# Altium footprint library NewSmartwatch.PcbLib: 41 footprints (part 3 of 3)
Each footprint in its own frame and in the unit in brackets; x right, y up, seen from the top. Pads: shape width x height; smd on the part's side, far side on the other; paste and mask are expansions set on the pad; w line width, h text height; cw(c..) or ccw(c..) is an arc to the next point about the centre after c.
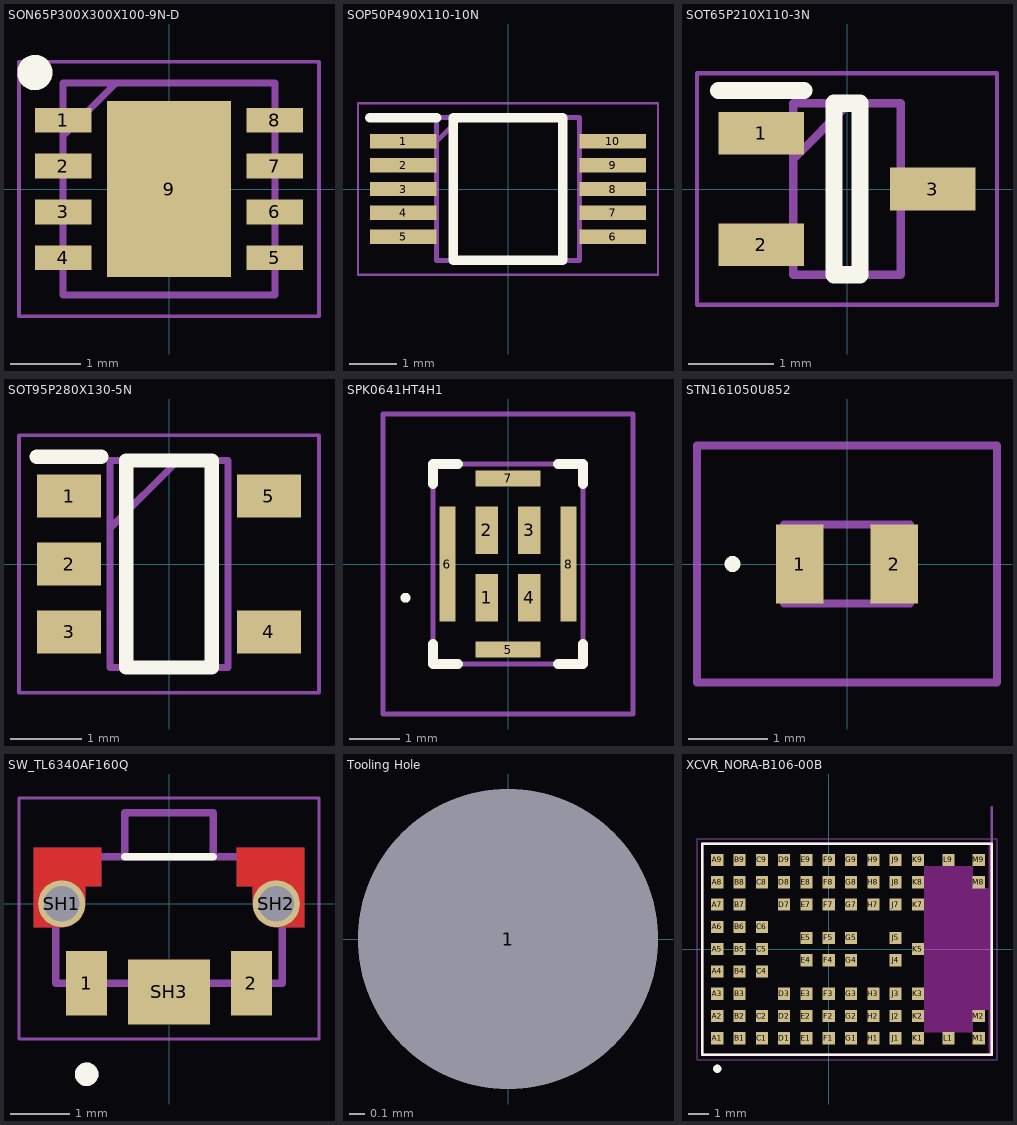
[diagram p2: the footprints below, top view; thin cyan lines are the x and y axes]

## SON65P300X300X100-9N-D [mm]
pads (9):
  rect 0.8x0.35 smd: 1(-1.5,0.975) 2(-1.5,0.325) 3(-1.5,-0.325) 4(-1.5,-0.975) 5(1.5,-0.975) 6(1.5,-0.325) 7(1.5,0.325) 8(1.5,0.975)
  rect 1.75x2.5 smd: 9(0,0)
Top Overlay:
  circle w0.25: c-1.9,1.65 r0.125
Mechanical 13:
  lines w0.1: -1.5,0.75 -0.75,1.5 ; -1.5,-1.5 1.5,-1.5 1.5,1.5 -1.5,1.5 -1.5,-1.5
Mechanical 15:
  lines w0.05: -2.125,-1.8 2.125,-1.8 2.125,1.8 -2.125,1.8 -2.125,-1.8
3D body "NCV8187AMLE330TCG.stp": height 1, standoff 0, extent -1.55,-1.5 1.55,1.5

## SOP50P490X110-10N [mm]
pads (10):
  rect 1.4x0.3 smd: 1(-2.2,1) 2(-2.2,0.5) 3(-2.2,0) 4(-2.2,-0.5) 5(-2.2,-1) 6(2.2,-1) 7(2.2,-0.5) 8(2.2,0) 9(2.2,0.5) 10(2.2,1)
Top Overlay:
  lines w0.2: -2.9,1.5 -1.5,1.5 ; -1.15,-1.5 -1.15,1.5 1.15,1.5 1.15,-1.5 -1.15,-1.5
Mechanical 13:
  lines w0.1: -1.5,1 -1,1.5 ; -1.5,-1.5 -1.5,1.5 1.5,1.5 1.5,-1.5 -1.5,-1.5
Mechanical 15:
  lines w0.05: -3.15,-1.8 -3.15,1.8 3.15,1.8 3.15,-1.8 -3.15,-1.8
3D body "DRV2605LDGST.stp": height 1.1, standoff 0, extent -2.463,-1.5 2.463,1.5

## SOT65P210X110-3N [mm]
pads (3):
  rect 1x0.5 smd: 1(-1,0.65) 2(-1,-0.65) 3(1,0)
Top Overlay:
  lines w0.2: -1.5,1.15 -0.5,1.15 ; -0.15,-1 -0.15,1 0.15,1 0.15,-1 -0.15,-1
Mechanical 13:
  lines w0.1: -0.625,0.35 0.025,1 ; -0.625,-1 -0.625,1 0.625,1 0.625,-1 -0.625,-1
Mechanical 15:
  lines w0.05: -1.75,-1.35 -1.75,1.35 1.75,1.35 1.75,-1.35 -1.75,-1.35
3D body "DMG1013UW-7.stp": height 1.1, standoff 0, extent -1.05,-1 1.05,1

## SOT95P280X130-5N [mm]
pads (5):
  rect 0.9x0.6 smd: 1(-1.4,0.95) 2(-1.4,0) 3(-1.4,-0.95) 4(1.4,-0.95) 5(1.4,0.95)
Top Overlay:
  lines w0.2: -1.85,1.5 -0.95,1.5 ; -0.6,-1.45 0.6,-1.45 0.6,1.45 -0.6,1.45 -0.6,-1.45
Mechanical 13:
  lines w0.1: -0.825,0.5 0.125,1.45 ; -0.825,-1.45 0.825,-1.45 0.825,1.45 -0.825,1.45 -0.825,-1.45
Mechanical 15:
  lines w0.05: -2.1,-1.8 2.1,-1.8 2.1,1.8 -2.1,1.8 -2.1,-1.8
3D body "XC9265A331MR-G.stp": height 1.3, standoff 0, extent -1.4,-1.45 1.4,1.45

## SPK0641HT4H1 [mm]
pads (8):
  rect 0.45x0.95 smd: 1(-0.425,-0.675) 2(-0.425,0.675) 3(0.425,0.675) 4(0.425,-0.675)
  rect 1.3x0.325 smd: 5(0,-1.712) 7(0,1.712)
  rect 0.325x2.3 smd: 6(-1.212,0) 8(1.212,0)
Top Overlay:
  lines w0.1: -2.1,-0.675 ccw(c-2.05,-0.675) -2,-0.675 ccw(c-2.05,-0.675) -2.1,-0.675
  lines w0.2: -1.5,-1.6 -1.5,-2 -1,-2 ; -1.5,1.6 -1.5,2 -1,2 ; 1,-2 1.5,-2 1.5,-1.6 ; 1,2 1.5,2 1.5,1.6
Mechanical 13:
  lines w0.1: -1.5,-2 -1.5,2 1.5,2 1.5,-2 -1.5,-2
Mechanical 15:
  lines w0.1: -2.5,-3 -2.5,3 2.5,3 2.5,-3 -2.5,-3
3D body "SPK0641HT4H-1.stp": height 1, standoff 0, extent -1.503,-2.005 1.503,2.005

## STN161050U852 [mm]
pads (2):
  rect 0.6x1 smd: 1(-0.6,0) 2(0.6,0)
Top Overlay:
  lines w0.1: -1.5,0 ccw(c-1.45,0) -1.4,0 ccw(c-1.45,0) -1.5,0
Mechanical 13:
  lines w0.1: -0.8,-0.5 0.8,-0.5 0.8,0.5 -0.8,0.5 -0.8,-0.5
Mechanical 15:
  lines w0.1: -1.9,-1.5 1.9,-1.5 1.9,1.5 -1.9,1.5 -1.9,-1.5
3D body "STN161050U852.stp": height 0.5, standoff 0, extent -0.8,-0.501 0.8,0.501

## SW_TL6340AF160Q [mm]
height 1.55
pads (5):
  rect 0.7x1.1 smd: 1(-1.4,-1.35) 2(1.4,-1.35)
  round 0.8 hole 0.6 mask+0: SH1(-1.825,0) SH2(1.825,0)
  rect 1.4x1.1 smd: SH3(0,-1.5)
Top Layer:
  region: 2.3,-0.4 1.825,-0.4 1.804,-0.399 1.783,-0.398 1.762,-0.395 1.742,-0.391 1.721,-0.386 1.701,-0.38 1.682,-0.373 1.662,-0.365 1.643,-0.356 1.625,-0.346 1.607,-0.335 1.59,-0.324 1.573,-0.311 1.557,-0.297 1.542,-0.283 1.528,-0.268 1.514,-0.252 1.501,-0.235 1.49,-0.218 1.479,-0.2 1.469,-0.182 1.46,-0.163 1.452,-0.143 1.445,-0.124 1.439,-0.104 1.434,-0.083 1.43,-0.063 1.427,-0.042 1.426,-0.021 1.425,0 1.425,0.3 1.15,0.3 1.15,0.95 2.3,0.95
  region: -1.15,0.3 -1.425,0.3 -1.425,0 -1.426,-0.021 -1.427,-0.042 -1.43,-0.063 -1.434,-0.083 -1.439,-0.104 -1.445,-0.124 -1.452,-0.143 -1.46,-0.163 -1.469,-0.182 -1.479,-0.2 -1.49,-0.218 -1.501,-0.235 -1.514,-0.252 -1.528,-0.268 -1.542,-0.283 -1.557,-0.297 -1.573,-0.311 -1.59,-0.324 -1.607,-0.335 -1.625,-0.346 -1.643,-0.356 -1.662,-0.365 -1.682,-0.373 -1.701,-0.38 -1.721,-0.386 -1.742,-0.391 -1.762,-0.395 -1.783,-0.398 -1.804,-0.399 -1.825,-0.4 -2.3,-0.4 -2.3,0.95 -1.15,0.95
Bottom Layer:
  region: 2.3,-0.4 1.825,-0.4 1.804,-0.399 1.783,-0.398 1.762,-0.395 1.742,-0.391 1.721,-0.386 1.701,-0.38 1.682,-0.373 1.662,-0.365 1.643,-0.356 1.625,-0.346 1.607,-0.335 1.59,-0.324 1.573,-0.311 1.557,-0.297 1.542,-0.283 1.528,-0.268 1.514,-0.252 1.501,-0.235 1.49,-0.218 1.479,-0.2 1.469,-0.182 1.46,-0.163 1.452,-0.143 1.445,-0.124 1.439,-0.104 1.434,-0.083 1.43,-0.063 1.427,-0.042 1.426,-0.021 1.425,0 1.425,0.3 1.15,0.3 1.15,0.95 2.3,0.95
  region: -1.15,0.3 -1.425,0.3 -1.425,0 -1.426,-0.021 -1.427,-0.042 -1.43,-0.063 -1.434,-0.083 -1.439,-0.104 -1.445,-0.124 -1.452,-0.143 -1.46,-0.163 -1.469,-0.182 -1.479,-0.2 -1.49,-0.218 -1.501,-0.235 -1.514,-0.252 -1.528,-0.268 -1.542,-0.283 -1.557,-0.297 -1.573,-0.311 -1.59,-0.324 -1.607,-0.335 -1.625,-0.346 -1.643,-0.356 -1.662,-0.365 -1.682,-0.373 -1.701,-0.38 -1.721,-0.386 -1.742,-0.391 -1.762,-0.395 -1.783,-0.398 -1.804,-0.399 -1.825,-0.4 -2.3,-0.4 -2.3,0.95 -1.15,0.95
Top Overlay:
  circle w0.2: c-1.4,-2.9 r0.1
  lines w0.127: -0.75,0.8 0.75,0.8
Top Solder:
  region: 2.4,-0.5 1.825,-0.5 1.799,-0.499 1.773,-0.497 1.747,-0.494 1.721,-0.489 1.696,-0.483 1.67,-0.476 1.646,-0.467 1.622,-0.457 1.598,-0.446 1.575,-0.433 1.553,-0.419 1.531,-0.405 1.51,-0.389 1.49,-0.372 1.471,-0.354 1.453,-0.335 1.436,-0.315 1.42,-0.294 1.406,-0.272 1.392,-0.25 1.379,-0.227 1.368,-0.203 1.358,-0.179 1.349,-0.155 1.342,-0.129 1.336,-0.104 1.331,-0.078 1.328,-0.052 1.326,-0.026 1.325,0 1.325,0.2 1.05,0.2 1.05,1.05 2.4,1.05
  region: -1.05,0.2 -1.325,0.2 -1.325,0 -1.326,-0.026 -1.328,-0.052 -1.331,-0.078 -1.336,-0.104 -1.342,-0.129 -1.349,-0.155 -1.358,-0.179 -1.368,-0.203 -1.379,-0.227 -1.392,-0.25 -1.406,-0.272 -1.42,-0.294 -1.436,-0.315 -1.453,-0.335 -1.471,-0.354 -1.49,-0.372 -1.51,-0.389 -1.531,-0.405 -1.553,-0.419 -1.575,-0.433 -1.598,-0.446 -1.622,-0.457 -1.646,-0.467 -1.67,-0.476 -1.696,-0.483 -1.721,-0.489 -1.747,-0.494 -1.773,-0.497 -1.799,-0.499 -1.825,-0.5 -2.4,-0.5 -2.4,1.05 -1.05,1.05
Bottom Solder:
  region: 2.4,-0.5 1.825,-0.5 1.799,-0.499 1.773,-0.497 1.747,-0.494 1.721,-0.489 1.696,-0.483 1.67,-0.476 1.646,-0.467 1.622,-0.457 1.598,-0.446 1.575,-0.433 1.553,-0.419 1.531,-0.405 1.51,-0.389 1.49,-0.372 1.471,-0.354 1.453,-0.335 1.436,-0.315 1.42,-0.294 1.406,-0.272 1.392,-0.25 1.379,-0.227 1.368,-0.203 1.358,-0.179 1.349,-0.155 1.342,-0.129 1.336,-0.104 1.331,-0.078 1.328,-0.052 1.326,-0.026 1.325,0 1.325,0.2 1.05,0.2 1.05,1.05 2.4,1.05
  region: -1.05,0.2 -1.325,0.2 -1.325,0 -1.326,-0.026 -1.328,-0.052 -1.331,-0.078 -1.336,-0.104 -1.342,-0.129 -1.349,-0.155 -1.358,-0.179 -1.368,-0.203 -1.379,-0.227 -1.392,-0.25 -1.406,-0.272 -1.42,-0.294 -1.436,-0.315 -1.453,-0.335 -1.471,-0.354 -1.49,-0.372 -1.51,-0.389 -1.531,-0.405 -1.553,-0.419 -1.575,-0.433 -1.598,-0.446 -1.622,-0.457 -1.646,-0.467 -1.67,-0.476 -1.696,-0.483 -1.721,-0.489 -1.747,-0.494 -1.773,-0.497 -1.799,-0.499 -1.825,-0.5 -2.4,-0.5 -2.4,1.05 -1.05,1.05
Mechanical 13:
  circle w0.2: c-1.4,-2.9 r0.1
  lines w0.127: -0.75,0.8 -0.75,1.55 0.75,1.55 0.75,0.8 ; -0.75,0.8 -1.925,0.8 -1.925,-1.35 1.925,-1.35 1.925,0.8 0.75,0.8 ; -0.75,0.8 0.75,0.8
Mechanical 15:
  lines w0.05: -2.55,-2.3 2.55,-2.3 2.55,1.8 -2.55,1.8 -2.55,-2.3
3D body "step_temp.STEP": height 1.55, standoff -0.45, extent -1.925,-1.35 1.925,1.55

## Tooling Hole [mm]
pads (1):
  round 2 hole 2 unplated paste-2539.97 mask+0: 1(0,0)

## XCVR_NORA-B106-00B [mm]
pads (82):
  rect 0.6x0.6 smd: A1(-5.5,-4.4) A2(-5.5,-3.3) A3(-5.5,-2.2) A4(-5.5,-1.1) A5(-5.5,0) A6(-5.5,1.1) A7(-5.5,2.2) A8(-5.5,3.3) A9(-5.5,4.4) B1(-4.4,-4.4) B2(-4.4,-3.3) B3(-4.4,-2.2) B4(-4.4,-1.1) B5(-4.4,0) B6(-4.4,1.1) B7(-4.4,2.2) B8(-4.4,3.3) B9(-4.4,4.4) C1(-3.3,-4.4) C2(-3.3,-3.3) C4(-3.3,-1.1) C5(-3.3,0) C6(-3.3,1.1) C8(-3.3,3.3) C9(-3.3,4.4) D1(-2.2,-4.4) D2(-2.2,-3.3) D3(-2.2,-2.2) D7(-2.2,2.2) D8(-2.2,3.3) D9(-2.2,4.4) E1(-1.1,-4.4) E2(-1.1,-3.3) E3(-1.1,-2.2) E4(-1.1,-0.55) E5(-1.1,0.55) E7(-1.1,2.2) E8(-1.1,3.3) E9(-1.1,4.4) F1(0,-4.4) F2(0,-3.3) F3(0,-2.2) F4(0,-0.55) F5(0,0.55) F7(0,2.2) F8(0,3.3) F9(0,4.4) G1(1.1,-4.4) G2(1.1,-3.3) G3(1.1,-2.2) G4(1.1,-0.55) G5(1.1,0.55) G7(1.1,2.2) G8(1.1,3.3) G9(1.1,4.4) H1(2.2,-4.4) H2(2.2,-3.3) H3(2.2,-2.2) H7(2.2,2.2) H8(2.2,3.3) H9(2.2,4.4) J1(3.3,-4.4) J2(3.3,-3.3) J3(3.3,-2.2) J4(3.3,-0.55) J5(3.3,0.55) J7(3.3,2.2) J8(3.3,3.3) J9(3.3,4.4) K1(4.4,-4.4) K2(4.4,-3.3) K3(4.4,-2.2) K5(4.4,0) K7(4.4,2.2) K8(4.4,3.3) K9(4.4,4.4) L1(5.9,-4.4) L9(5.9,4.4) M1(7.4,-4.4) M2(7.4,-3.3) M8(7.4,3.3) M9(7.4,4.4)
Top Overlay:
  circle w0.2: c-5.5,-5.9 r0.1
  lines w0.127: -6.25,-5.2 -6.25,5.2 8.05,5.2 8.05,-5.2 -6.25,-5.2
Keep-Out Layer:
  region: 8.05,-5.2 7.9,-5.2 7.9,-3 7.1,-3 7.1,-4.1 4.7,-4.1 4.7,4.1 7.1,4.1 7.1,3 7.9,3 7.9,5.2 8.05,5.2
  region: 8.05,-5.2 7.9,-5.2 7.9,-3 7.1,-3 7.1,-4.1 4.7,-4.1 4.7,4.1 7.1,4.1 7.1,3 7.9,3 7.9,5.2 8.05,5.2
  region: 8.05,-5.2 7.9,-5.2 7.9,-3 7.1,-3 7.1,-4.1 4.7,-4.1 4.7,4.1 7.1,4.1 7.1,3 7.9,3 7.9,5.2 8.05,5.2
Mechanical 13:
  circle w0.2: c-5.5,-5.9 r0.1
  lines w0.127: 8.05,7 8.05,5.2 ; 8.05,5.2 -6.25,5.2 -6.25,-5.2 8.05,-5.2 8.05,5.2
  text "PCB Edge" at 7.75,6 h0.61
Mechanical 15:
  lines w0.05: -6.5,-5.45 -6.5,5.45 8.3,5.45 8.3,-5.45 -6.5,-5.45